# EAGLE library part MAX1036EKA+T (library my)
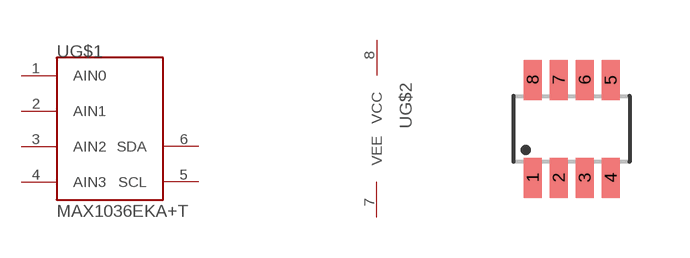
[diagram p3: symbol with the pads of SOT23-8L; footprint SOT23-8L]

Designator prefix -; gates G$1=MAX1037 G$2=VCC_VEE

## MAX1036EKA+T (DIGIKEY: MAX1036EKA+TTR-ND)  [SOT23-8L]
1  G$1:AIN0
2  G$1:AIN1
3  G$1:AIN2
4  G$1:AIN3
5  G$1:SCL
6  G$1:SDA
7  G$2:VEE
8  G$2:VCC

## Footprint SOT23-8L (pad centres in mm)
SC70/SOT23-8 Source: http://datasheets.maxim-ic.com/en/ds/MAX4335-MAX4338.pdf
smd 0.45 x 1: 1 -0.975,-1.225; 2 -0.325,-1.225; 3 0.325,-1.225; 4 0.975,-1.225; 5 0.975,1.225; 6 0.325,1.225; 7 -0.325,1.225; 8 -0.975,1.225